# Altium integrated library 1048P.IntLib: 1 symbol
Pins are listed as number, name and electrical type; pins without a type are passive.

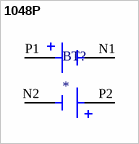
[diagram p0: symbol 1048P]

## 1048P
designator BT?
SMT Polarized Holder for Dual 18650 Batteries; MF: Keystone Electronics; MP: 1048P; Value: *; Price: None; Package: None; Availability: In Stock; SnapEDA_Link: https://www.snapeda.com/parts/1048P/Keystone+Electronics/view-part/?ref=snap; Purchase-URL: https://pricing.snapeda.com/search/part/1048P/?ref=eda; Check_prices: https://www.snapeda.com/parts/1048P/Keystone+Electronics/view-part/?ref=eda
footprint BAT_1048P
pins: N1, N2, P1, P2